# EAGLE library part ALTERA_EPF10K10A (library maxim_9709)
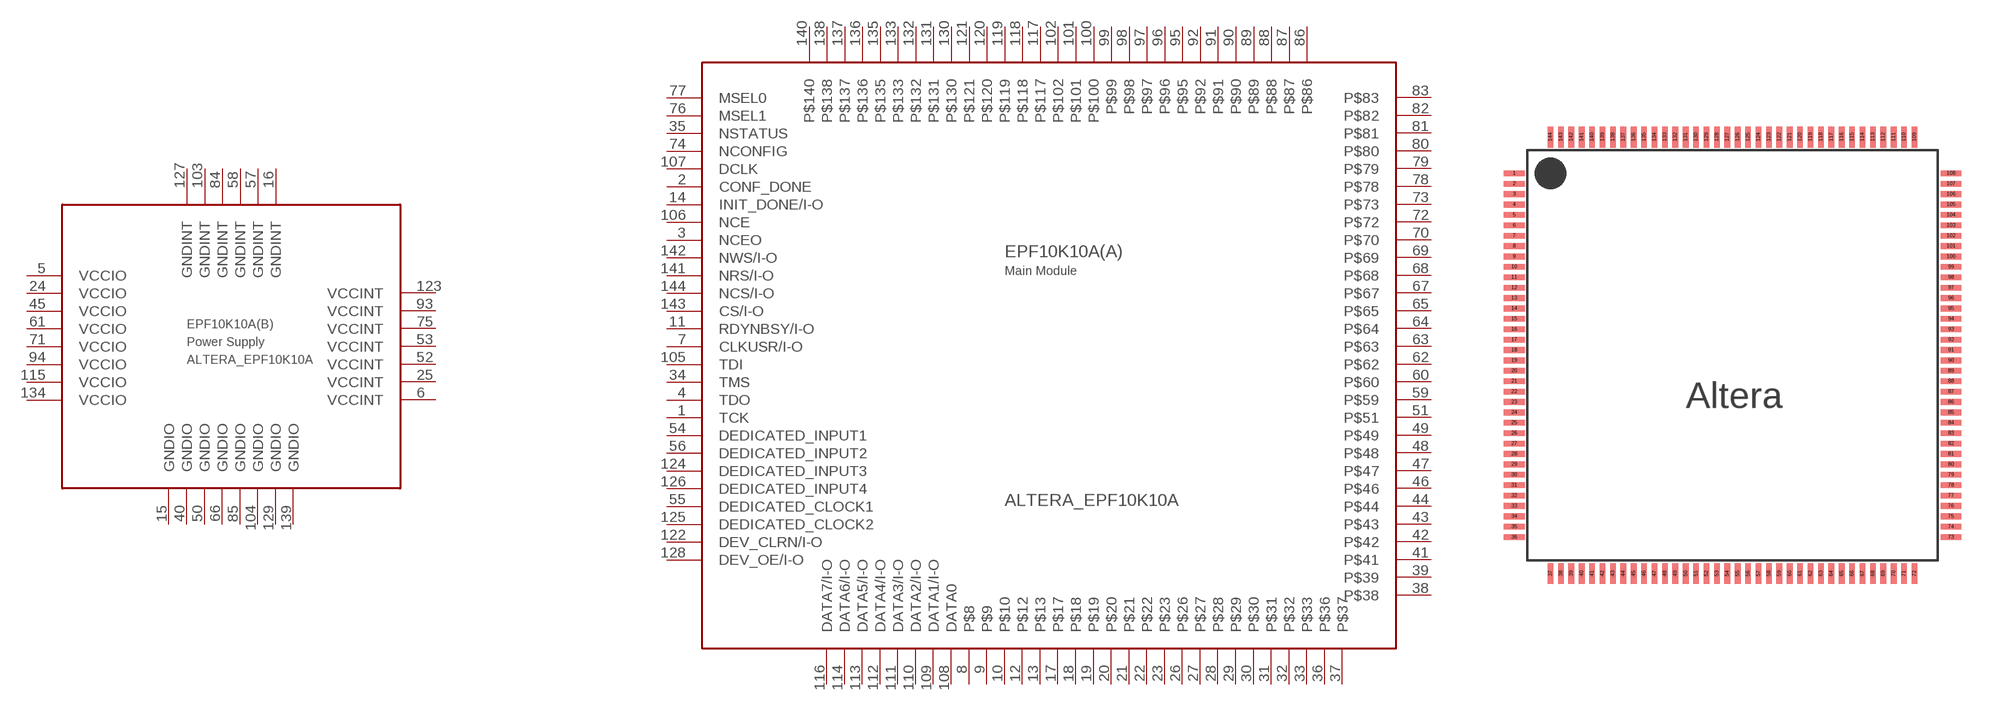
[diagram p0: symbol with the pads of 144TQFP; footprint 144TQFP]

Designator prefix EPF10K10A; gates (A)=ALTERA_EPF10K10A_MAIN (B)=ALTERA_EPF10K10A_POWER

## ALTERA_EPF10K10A  [144TQFP]
1  (A):TCK
2  (A):CONF_DONE
3  (A):NCEO
4  (A):TDO
5  (B):VCCIO  pwr
6  (B):VCCINT  pwr
7  (A):CLKUSR/I-O
8  (A):P$8
9  (A):P$9
10  (A):P$10
11  (A):RDYNBSY/I-O
12  (A):P$12
13  (A):P$13
14  (A):INIT_DONE/I-O
15  (B):GNDIO  pwr
16  (B):GNDINT  pwr
17  (A):P$17
18  (A):P$18
19  (A):P$19
20  (A):P$20
21  (A):P$21
22  (A):P$22
23  (A):P$23
24  (B):VCCIO  pwr
25  (B):VCCINT  pwr
26  (A):P$26
27  (A):P$27
28  (A):P$28
29  (A):P$29
30  (A):P$30
31  (A):P$31
32  (A):P$32
33  (A):P$33
34  (A):TMS
35  (A):NSTATUS
36  (A):P$36
37  (A):P$37
38  (A):P$38
39  (A):P$39
40  (B):GNDIO  pwr
41  (A):P$41
42  (A):P$42
43  (A):P$43
44  (A):P$44
45  (B):VCCIO  pwr
46  (A):P$46
47  (A):P$47
48  (A):P$48
49  (A):P$49
50  (B):GNDIO  pwr
51  (A):P$51
52  (B):VCCINT  pwr
53  (B):VCCINT  pwr
54  (A):DEDICATED_INPUT1
55  (A):DEDICATED_CLOCK1
56  (A):DEDICATED_INPUT2
57  (B):GNDINT  pwr
58  (B):GNDINT  pwr
59  (A):P$59
60  (A):P$60
61  (B):VCCIO  pwr
62  (A):P$62
63  (A):P$63
64  (A):P$64
65  (A):P$65
66  (B):GNDIO  pwr
67  (A):P$67
68  (A):P$68
69  (A):P$69
70  (A):P$70
71  (B):VCCIO  pwr
72  (A):P$72
73  (A):P$73
74  (A):NCONFIG
75  (B):VCCINT  pwr
76  (A):MSEL1
77  (A):MSEL0
78  (A):P$78
79  (A):P$79
80  (A):P$80
81  (A):P$81
82  (A):P$82
83  (A):P$83
84  (B):GNDINT  pwr
85  (B):GNDIO  pwr
86  (A):P$86
87  (A):P$87
88  (A):P$88
89  (A):P$89
90  (A):P$90
91  (A):P$91
92  (A):P$92
93  (B):VCCINT  pwr
94  (B):VCCIO  pwr
95  (A):P$95
96  (A):P$96
97  (A):P$97
98  (A):P$98
99  (A):P$99
100  (A):P$100
101  (A):P$101
102  (A):P$102
103  (B):GNDINT  pwr
104  (B):GNDIO  pwr
105  (A):TDI
106  (A):NCE
107  (A):DCLK
108  (A):DATA0
109  (A):DATA1/I-O
110  (A):DATA2/I-O
111  (A):DATA3/I-O
112  (A):DATA4/I-O
113  (A):DATA5/I-O
114  (A):DATA6/I-O
115  (B):VCCIO  pwr
116  (A):DATA7/I-O
117  (A):P$117
118  (A):P$118
119  (A):P$119
120  (A):P$120
121  (A):P$121
122  (A):DEV_CLRN/I-O
123  (B):VCCINT  pwr
124  (A):DEDICATED_INPUT3
125  (A):DEDICATED_CLOCK2
126  (A):DEDICATED_INPUT4
127  (B):GNDINT  pwr
128  (A):DEV_OE/I-O
129  (B):GNDIO  pwr
130  (A):P$130
131  (A):P$131
132  (A):P$132
133  (A):P$133
134  (B):VCCIO  pwr
135  (A):P$135
136  (A):P$136
137  (A):P$137
138  (A):P$138
139  (B):GNDIO  pwr
140  (A):P$140
141  (A):NRS/I-O
142  (A):NWS/I-O
143  (A):CS/I-O
144  (A):NCS/I-O

## Footprint 144TQFP (pad centres in mm)
smd 1 x 0.27: 1 -10.5,8.75; 2 -10.5,8.25; 3 -10.5,7.75; 4 -10.5,7.25; 5 -10.5,6.75; 6 -10.5,6.25; 7 -10.5,5.75; 8 -10.5,5.25; 9 -10.5,4.75; 10 -10.5,4.25; 11 -10.5,3.75; 12 -10.5,3.25; 13 -10.5,2.75; 14 -10.5,2.25; 15 -10.5,1.75; 16 -10.5,1.25; 17 -10.5,0.75; 18 -10.5,0.25; 19 -10.5,-0.25; 20 -10.5,-0.75; 21 -10.5,-1.25; 22 -10.5,-1.75; 23 -10.5,-2.25; 24 -10.5,-2.75; 25 -10.5,-3.25; 26 -10.5,-3.75; 27 -10.5,-4.25; 28 -10.5,-4.75; 29 -10.5,-5.25; 30 -10.5,-5.75; 31 -10.5,-6.25; 32 -10.5,-6.75; 33 -10.5,-7.25; 34 -10.5,-7.75; 35 -10.5,-8.25; 36 -10.5,-8.75; 73 10.5,-8.75; 74 10.5,-8.25; 75 10.5,-7.75; 76 10.5,-7.25; 77 10.5,-6.75; 78 10.5,-6.25; 79 10.5,-5.75; 80 10.5,-5.25; 81 10.5,-4.75; 82 10.5,-4.25; 83 10.5,-3.75; 84 10.5,-3.25; 85 10.5,-2.75; 86 10.5,-2.25; 87 10.5,-1.75; 88 10.5,-1.25; 89 10.5,-0.75; 90 10.5,-0.25; 91 10.5,0.25; 92 10.5,0.75; 93 10.5,1.25; 94 10.5,1.75; 95 10.5,2.25; 96 10.5,2.75; 97 10.5,3.25; 98 10.5,3.75; 99 10.5,4.25; 100 10.5,4.75; 101 10.5,5.25; 102 10.5,5.75; 103 10.5,6.25; 104 10.5,6.75; 105 10.5,7.25; 106 10.5,7.75; 107 10.5,8.25; 108 10.5,8.75
smd 0.27 x 1: 37 -8.75,-10.5; 38 -8.25,-10.5; 39 -7.75,-10.5; 40 -7.25,-10.5; 41 -6.75,-10.5; 42 -6.25,-10.5; 43 -5.75,-10.5; 44 -5.25,-10.5; 45 -4.75,-10.5; 46 -4.25,-10.5; 47 -3.75,-10.5; 48 -3.25,-10.5; 49 -2.75,-10.5; 50 -2.25,-10.5; 51 -1.75,-10.5; 52 -1.25,-10.5; 53 -0.75,-10.5; 54 -0.25,-10.5; 55 0.25,-10.5; 56 0.75,-10.5; 57 1.25,-10.5; 58 1.75,-10.5; 59 2.25,-10.5; 60 2.75,-10.5; 61 3.25,-10.5; 62 3.75,-10.5; 63 4.25,-10.5; 64 4.75,-10.5; 65 5.25,-10.5; 66 5.75,-10.5; 67 6.25,-10.5; 68 6.75,-10.5; 69 7.25,-10.5; 70 7.75,-10.5; 71 8.25,-10.5; 72 8.75,-10.5; 109 8.75,10.5; 110 8.25,10.5; 111 7.75,10.5; 112 7.25,10.5; 113 6.75,10.5; 114 6.25,10.5; 115 5.75,10.5; 116 5.25,10.5; 117 4.75,10.5; 118 4.25,10.5; 119 3.75,10.5; 120 3.25,10.5; 121 2.75,10.5; 122 2.25,10.5; 123 1.75,10.5; 124 1.25,10.5; 125 0.75,10.5; 126 0.25,10.5; 127 -0.25,10.5; 128 -0.75,10.5; 129 -1.25,10.5; 130 -1.75,10.5; 131 -2.25,10.5; 132 -2.75,10.5; 133 -3.25,10.5; 134 -3.75,10.5; 135 -4.25,10.5; 136 -4.75,10.5; 137 -5.25,10.5; 138 -5.75,10.5; 139 -6.25,10.5; 140 -6.75,10.5; 141 -7.25,10.5; 142 -7.75,10.5; 143 -8.25,10.5; 144 -8.75,10.5